# Altium footprint library v-reg.PCBLIB: 52 footprints (part 4 of 4)
Each footprint in its own frame and in the unit in brackets; x right, y up, seen from the top. Pads: shape width x height; smd on the part's side, far side on the other; paste and mask are expansions set on the pad; w line width, h text height; cw(c..) or ccw(c..) is an arc to the next point about the centre after c.
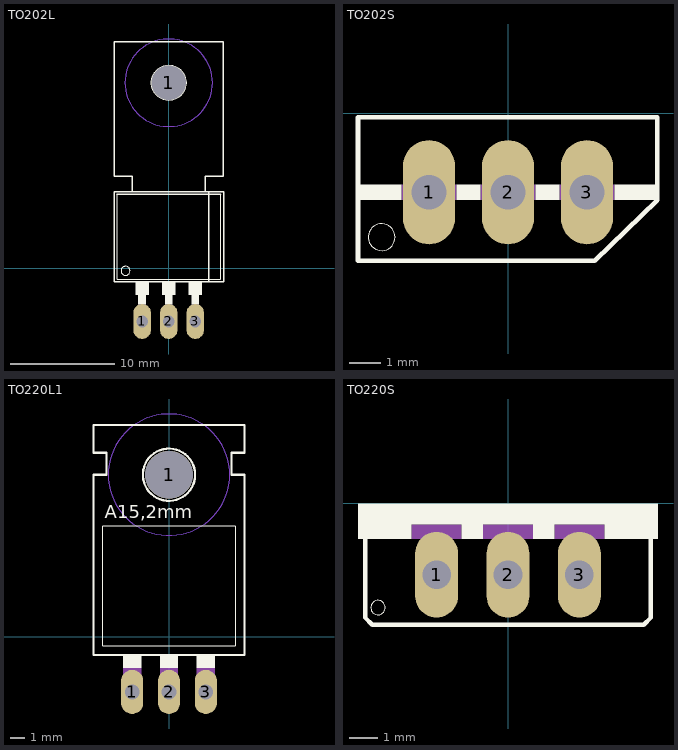
[diagram p3: the footprints below, top view; thin cyan lines are the x and y axes]

## TO202L [mil]
pads (4):
  oval 66x132 hole 44: 1(-100,-200) 2(0,-200) 3(100,-200)
  round 130 hole 130: 1(0,700)
Bottom Layer keep-out:
  circle w0: c0,700 r165
Top Overlay:
  circle w0: c-163,-9 r17
  circle w6: c0,700 r65
  rectangle: -25,-100 25,-50
  rectangle: 75,-100 125,-50
  rectangle: -125,-100 -75,-50
  rectangle: 85,-135 115,-100
  rectangle: -15,-135 15,-100
  rectangle: -115,-135 -85,-100
  lines w2: -195,280 -195,-40 195,-40 195,280
  lines w6: -195,280 195,280 ; -138,289 -138,347 -205,347 -205,855 205,855 205,347 138,347 138,289 ; -138,289 -205,289 -205,-50 151,-50 ; -138,289 138,289 ; 138,289 151,289 ; 151,-50 151,289 ; 151,-50 207,-50 207,289 151,289
Mechanical 16:
  rectangle: 85,-200 115,-135
  rectangle: -15,-200 15,-135
  rectangle: -115,-200 -85,-135
  text "1" at -115,-25 h77.5
  text "2" at -20,-25 h77.5
  text "3" at 80,-25 h77.5
Via Holes:
  circle w0: c0,700 r165

## TO202S [mil]
pads (3):
  oval 66x132 hole 44: 1(-100,-100) 2(0,-100) 3(100,-100)
Top Overlay:
  circle w0: c-160,-157 r17
  rectangle: 135,-110 190,-90
  rectangle: 35,-110 65,-90
  rectangle: -65,-110 -35,-90
  rectangle: -190,-110 -135,-90
  lines w6: -190,-187 110,-187 189,-110 189,-5 -190,-5 -190,-187
Mechanical 16:
  rectangle: -135,-110 -65,-90
  rectangle: -35,-110 35,-90
  rectangle: 65,-110 135,-90
  text "1" at -120,-65 h77.5
  text "2" at -20,-65 h77.5
  text "3" at 80,-65 h77.5

## TO220L1 [mil]
pads (4):
  oval 60x120 hole 40: 1(-100,-150) 2(0,-150) 3(100,-150)
  round 130 hole 130: 1(0,440)
Bottom Layer keep-out:
  circle w0: c0,440 r165
Top Overlay:
  circle w6: c0,440 r71
  rectangle: 75,-85 125,-50
  rectangle: -25,-85 25,-50
  rectangle: -125,-85 -75,-50
  lines w2: -180,-25 180,-25 180,300 -180,300 -180,-25
  lines w6: -205,-50 205,-50 205,440 170,440 170,500 205,500 205,575 -205,575 -205,500 -170,500 -170,440 -205,440 -205,-50
  text "A15,2mm" at -175,310 h60.45
Mechanical 16:
  rectangle: 75,-150 125,-85
  rectangle: -25,-150 25,-85
  rectangle: -125,-150 -75,-85
  text "1" at -120,0 h77.5
  text "2" at -20,0 h77.5
  text "3" at 80,0 h77.5
Via Holes:
  circle w0: c0,440 r165

## TO220S [mil]
pads (3):
  oval 60x120 hole 40: 1(-100,-100) 2(0,-100) 3(100,-100)
Top Overlay:
  circle w0: c-182,-146 r10
  rectangle: -210,-50 -135,0
  rectangle: -135,-30 -65,0
  rectangle: -65,-50 -35,0
  rectangle: -35,-30 35,0
  rectangle: 35,-50 65,0
  rectangle: 65,-30 135,0
  rectangle: 135,-50 210,0
  lines w6: -200,-45 -200,-160 -190,-170 190,-170 200,-160 200,-45
Mechanical 16:
  rectangle: -135,-50 -65,-30
  rectangle: -35,-50 35,-30
  rectangle: 65,-50 135,-30
  text "1" at -125,-150 h77.5
  text "2" at -25,-150 h77.5
  text "3" at 75,-150 h77.5